# EAGLE library part MCP6L04T-E/SL-2 (library IowaFormula)
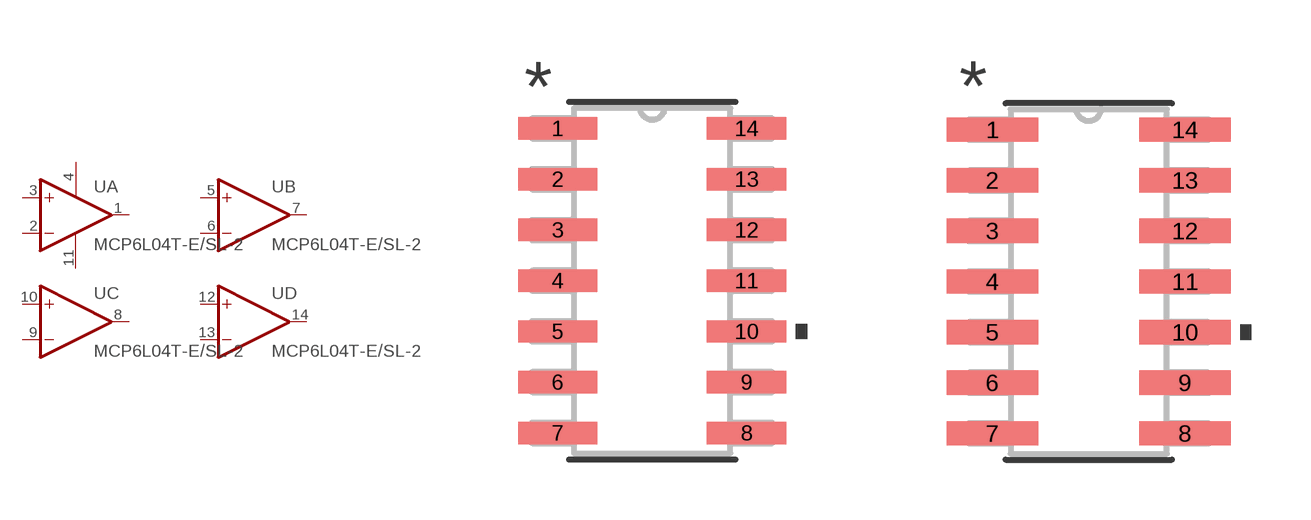
[diagram p10: symbol with the pads of SOIC14-N_MC; footprints SOIC14-N_MC, SOIC14-N_MC-M]

Designator prefix U; gates A=OPAMP B=OPAMP C=OPAMP D=OPAMP E=PWR+-

## MCP6L04T-E/SL-2 (MANUFACTURER_PART_NUMBER: MCP6L04TESL; VENDOR: Microchip)  [SOIC14-N_MC]
1  A:OUT  out
2  A:-IN  in
3  A:+IN  in
4  E:V+  pwr
5  B:+IN  in
6  B:-IN  in
7  B:OUT  out
8  C:OUT  out
9  C:-IN  in
10  C:+IN  in
11  E:V-  pwr
12  D:+IN  in
13  D:-IN  in
14  D:OUT  out

## MCP6L04T-E/SL-2SOIC14-N_MC-M (MANUFACTURER_PART_NUMBER: MCP6L04TESL; VENDOR: Microchip)  [SOIC14-N_MC-M]
Pads as for SOIC14-N_MC

## MCP6L04T-E/SL-2SOIC14-N_MC-L (MANUFACTURER_PART_NUMBER: MCP6L04TESL; VENDOR: Microchip)  [SOIC14-N_MC-L]
Pads as for SOIC14-N_MC

## Footprint SOIC14-N_MC (pad centres in mm)
smd 1.981 x 0.559: 1 -2.362,3.81; 2 -2.362,2.54; 3 -2.362,1.27; 4 -2.362,0; 5 -2.362,-1.27; 6 -2.362,-2.54; 7 -2.362,-3.81; 8 2.362,-3.81; 9 2.362,-2.54; 10 2.362,-1.27; 11 2.362,0; 12 2.362,1.27; 13 2.362,2.54; 14 2.362,3.81

## Footprint SOIC14-N_MC-M (pad centres in mm)
smd 2.286 x 0.61: 1 -2.413,3.81; 2 -2.413,2.54; 3 -2.413,1.27; 4 -2.413,0; 5 -2.413,-1.27; 6 -2.413,-2.54; 7 -2.413,-3.81; 8 2.413,-3.81; 9 2.413,-2.54; 10 2.413,-1.27; 11 2.413,0; 12 2.413,1.27; 13 2.413,2.54; 14 2.413,3.81

## Footprint SOIC14-N_MC-L (pad centres in mm)
smd 1.676 x 0.508: 1 -2.311,3.81; 2 -2.311,2.54; 3 -2.311,1.27; 4 -2.311,0; 5 -2.311,-1.27; 6 -2.311,-2.54; 7 -2.311,-3.81; 8 2.311,-3.81; 9 2.311,-2.54; 10 2.311,-1.27; 11 2.311,0; 12 2.311,1.27; 13 2.311,2.54; 14 2.311,3.81